# Altium footprint library SmartCardReader.PcbLib: 28 footprints (part 1 of 2)
Each footprint in its own frame and in the unit in brackets; x right, y up, seen from the top. Pads: shape width x height; smd on the part's side, far side on the other; paste and mask are expansions set on the pad; w line width, h text height; cw(c..) or ccw(c..) is an arc to the next point about the centre after c.
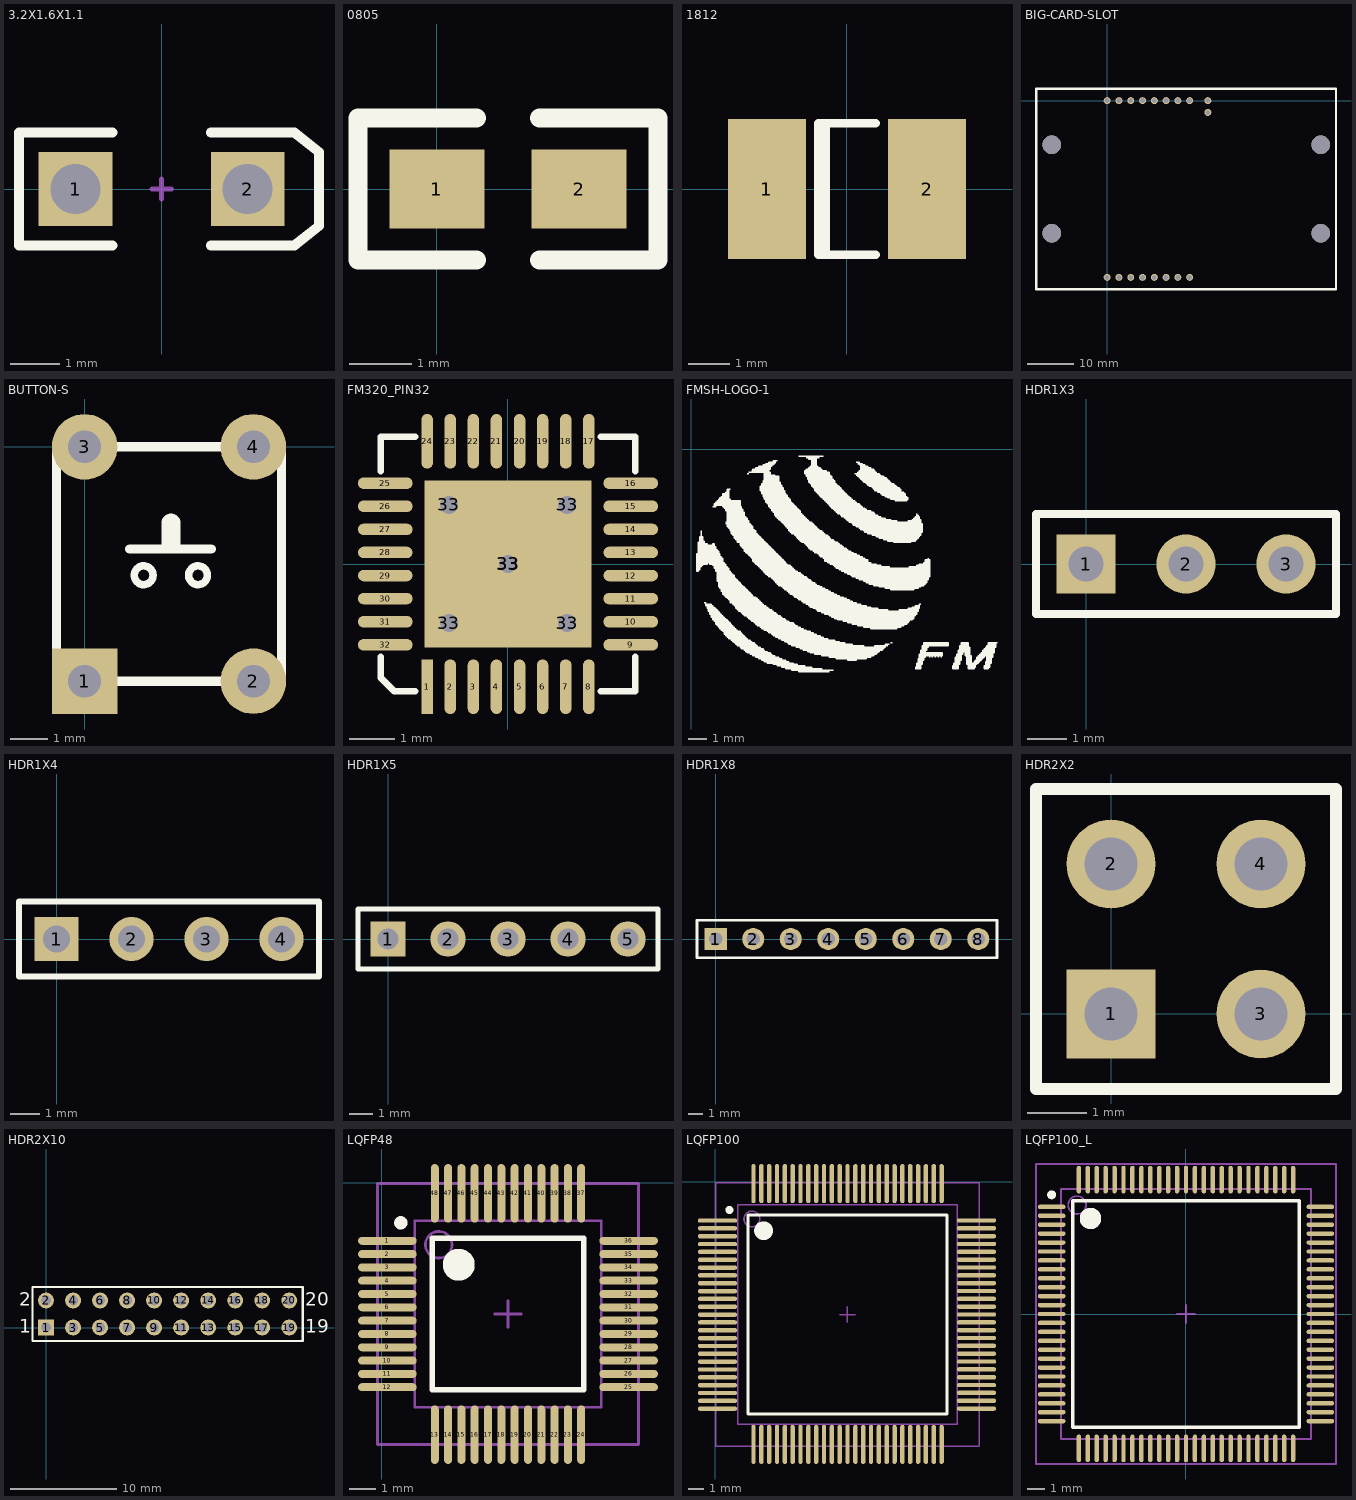
[diagram p0: the footprints below, top view; thin cyan lines are the x and y axes]

## 3.2X1.6X1.1 [mm] "SMT LED; 2 Flat Leads"
height 1.2
pads (2):
  rect 1.5x1.5 hole 1.016: 1(-1.75,0) 2(1.75,0)
Top Overlay:
  lines w0.2: -1,-1.15 -2.9,-1.15 -2.9,1.15 -1,1.15 ; 1,-1.15 2.7,-1.15 3.2,-0.75 3.2,0.75 2.7,1.15 1,1.15
Mechanical 1:
  lines w0.1: -0.2,0 0.2,0 ; 0,-0.2 0,0.2

## 0805 [mil]
pads (2):
  rect 60x50 smd: 1(0,0) 2(90,0)
Top Overlay:
  lines w12: 25,-45 -50,-45 -50,45 25,45 ; 65,-45 140,-45 140,45 65,45

## 1812 [mm] "Chip Capacitor; Body 4.5 x 3.2 mm (LxW typ)"
height 1.1
pads (2):
  rect 1.9x3.4 smd: 1(-1.95,0) 2(1.95,0)
Top Overlay:
  lines w0.2: -0.51,-1.6 -0.51,1.6 ; 0.7,-1.6 -0.7,-1.6 -0.7,1.6 0.7,1.6

## BIG-CARD-SLOT [mm]
height 1.35
pads (18):
  round 1.5 hole 1.05: 0(0,-38.1) 0(0,0) 0(2.54,-38.1) 0(2.54,0) 0(5.08,-38.1) 0(5.08,0) 0(7.62,-38.1) 0(7.62,0) 1(10.16,0) 2(12.7,0) 3(15.24,0) 4(17.78,0) 5(10.16,-38.1) 6(12.7,-38.1) 7(15.24,-38.1) 8(17.78,-38.1) 9(21.692,0) 10(21.692,-2.54)
via -11.913,-28.55 diameter 4 hole 4
via 46.05,-28.55 diameter 4 hole 4
via -11.913,-9.525 diameter 4 hole 4
via 46.05,-9.5 diameter 4 hole 4
Top Overlay:
  lines w0.508: -15.342,-40.64 49.301,-40.64 49.327,-40.615 ; -15.265,-40.64 -15.265,2.54 49.327,2.54 49.327,-40.64

## BUTTON-S [mil]
pads (4):
  rect 70x70 hole 35: 1(0,-250)
  round 70 hole 35: 2(180,-250) 3(0,0) 4(180,0)
Top Overlay:
  circle w8: c121,-137 r10
  circle w8: c63,-137 r10
  lines w10: -30,-250 -30,0 ; 0,-250 180,-250 ; 0,0 180,0 ; 48,-109 135,-109 ; 210,-250 210,0
  lines w20: 92,-102 92,-81

## FM320_PIN32 [mm]
pads (38):
  rect 0.254x1.2 smd: 1(-1.777,-2.694)
  oval 0.254x1.2 smd: 2(-1.269,-2.694) 3(-0.761,-2.694) 4(-0.253,-2.694) 5(0.255,-2.694) 6(0.763,-2.694) 7(1.271,-2.694) 8(1.779,-2.694) 17(1.779,2.706) 18(1.271,2.706) 19(0.763,2.706) 20(0.255,2.706) 21(-0.253,2.706) 22(-0.761,2.706) 23(-1.269,2.706) 24(-1.777,2.706)
  oval 1.2x0.254 smd: 9(2.701,-1.772) 10(2.701,-1.264) 11(2.701,-0.756) 12(2.701,-0.248) 13(2.701,0.26) 14(2.701,0.768) 15(2.701,1.276) 16(2.701,1.784) 25(-2.699,1.784) 26(-2.699,1.276) 27(-2.699,0.768) 28(-2.699,0.26) 29(-2.699,-0.248) 30(-2.699,-0.756) 31(-2.699,-1.264) 32(-2.699,-1.772)
  round 0.6 hole 0.4: 33(-1.299,-1.294) 33(-1.299,1.306) 33(0.001,0.006) 33(1.301,-1.294) 33(1.301,1.306)
  rect 3.683x3.683 smd: 33(0.001,0.006)
Top Overlay:
  lines w0.152: -2.799,-2.044 -2.799,-2.494 -2.499,-2.794 -2.049,-2.794 ; -2.799,2.056 -2.799,2.806 -2.049,2.806 ; 2.051,-2.794 2.801,-2.794 2.801,-2.044 ; 2.051,2.806 2.801,2.806 2.801,2.056

## FMSH-LOGO-1 [mm]
Top Overlay:
  drawing of 1193 lines, arcs and shapes, not listed

## HDR1X3 [mm] "Connector; Header; 3 Position"
height 8.2
pads (3):
  rect 1.5x1.5 hole 0.9: 1(0,0)
  round 1.5 hole 0.9: 2(2.54,0) 3(5.08,0)
Top Overlay:
  lines w0.2: -1.27,-1.27 -1.27,1.27 6.35,1.27 6.35,-1.27 -1.27,-1.27

## HDR1X4 [mm] "Connector; Header; 4 Position"
pads (4):
  rect 1.5x1.5 hole 0.9: 1(0,0)
  round 1.5 hole 0.9: 2(2.54,0) 3(5.08,0) 4(7.62,0)
Top Overlay:
  lines w0.2: -1.27,-1.27 8.89,-1.27 8.89,1.27 -1.27,1.27 -1.27,-1.27

## HDR1X5 [mm] "Connector; Header; 5 Position"
pads (5):
  rect 1.5x1.5 hole 0.9: 1(0,0)
  round 1.5 hole 0.9: 2(2.54,0) 3(5.08,0) 4(7.62,0) 5(10.16,0)
Top Overlay:
  lines w0.2: -1.27,-1.27 11.43,-1.27 11.43,1.27 -1.27,1.27 -1.27,-1.27

## HDR1X8 [mm] "Connector; Header; 8 Position"
pads (8):
  rect 1.5x1.5 hole 0.9: 1(0,0)
  round 1.5 hole 0.9: 2(2.54,0) 3(5.08,0) 4(7.62,0) 5(10.16,0) 6(12.7,0) 7(15.24,0) 8(17.78,0)
Top Overlay:
  lines w0.2: -1.27,-1.27 19.05,-1.27 19.05,1.27 -1.27,1.27 -1.27,-1.27

## HDR2X2 [mm] "Connector; Header; 2x2 Position"
pads (4):
  rect 1.5x1.5 hole 0.9: 1(0,0)
  round 1.5 hole 0.9: 2(0,2.54) 3(2.54,0) 4(2.54,2.54)
Top Overlay:
  lines w0.2: -1.27,-1.27 -1.27,3.81 3.81,3.81 3.81,-1.27 -1.27,-1.27

## HDR2X10 [mm] "Connector; Header; 10x2 Position"
height 8.2
pads (20):
  rect 1.5x1.5 hole 0.9: 1(0,0)
  round 1.5 hole 0.9: 2(0,2.54) 3(2.54,0) 4(2.54,2.54) 5(5.08,0) 6(5.08,2.54) 7(7.62,0) 8(7.62,2.54) 9(10.16,0) 10(10.16,2.54) 11(12.7,0) 12(12.7,2.54) 13(15.24,0) 14(15.24,2.54) 15(17.78,0) 16(17.78,2.54) 17(20.32,0) 18(20.32,2.54) 19(22.86,0) 20(22.86,2.54)
Top Overlay:
  lines w0.2: -1.27,-1.27 -1.27,3.81 0.635,3.81 24.13,3.81 24.13,-1.27 0.635,-1.27 -1.27,-1.27
  text "2" at -2.54,2.032 h1.27
  text "1" at -2.54,-0.508 h1.27
  text "19" at 24.384,-0.508 h1.27
  text "20" at 24.384,2.032 h1.27

## LQFP48 [mm]
pads (48):
  oval 2.2x0.3 smd: 1(0.217,-2.178) 2(0.217,-2.678) 3(0.217,-3.178) 4(0.217,-3.678) 5(0.217,-4.178) 6(0.217,-4.678) 7(0.217,-5.178) 8(0.217,-5.678) 9(0.217,-6.178) 10(0.217,-6.678) 11(0.217,-7.178) 12(0.217,-7.678) 25(9.283,-7.678) 26(9.283,-7.178) 27(9.283,-6.678) 28(9.283,-6.178) 29(9.283,-5.678) 30(9.283,-5.178) 31(9.283,-4.678) 32(9.283,-4.178) 33(9.283,-3.678) 34(9.283,-3.178) 35(9.283,-2.678) 36(9.283,-2.178)
  oval 0.3x2.2 smd: 13(2,-9.461) 14(2.5,-9.461) 15(3,-9.461) 16(3.5,-9.461) 17(4,-9.461) 18(4.5,-9.461) 19(5,-9.461) 20(5.5,-9.461) 21(6,-9.461) 22(6.5,-9.461) 23(7,-9.461) 24(7.5,-9.461) 37(7.5,-0.395) 38(7,-0.395) 39(6.5,-0.395) 40(6,-0.395) 41(5.5,-0.395) 42(5,-0.395) 43(4.5,-0.395) 44(4,-0.395) 45(3.5,-0.395) 46(3,-0.395) 47(2.5,-0.395) 48(2,-0.395)
Top Overlay:
  circle w0.6: c2.9,-3.078 r0.3
  circle w0.25: c0.725,-1.503 r0.125
  lines w0.2: 1.9,-7.778 7.6,-7.778 7.6,-2.078 1.9,-2.078 1.9,-7.778
Mechanical 13:
  circle w0.1: c2.15,-2.328 r0.5
  lines w0.1: 1.25,-8.428 8.25,-8.428 8.25,-1.428 1.25,-1.428 1.25,-8.428
Mechanical 15:
  lines w0.1: 4.25,-4.928 5.25,-4.928 ; 4.75,-5.428 4.75,-4.428 ; -0.15,-9.828 9.65,-9.828 9.65,-0.028 -0.15,-0.028 -0.15,-9.828
3D body: height 1.6, standoff 0, extent 1.25,-8.428 8.25,-1.428

## LQFP100 [mm]
pads (100):
  oval 2.5x0.28 smd: 1(0.152,-2.489) 2(0.152,-2.989) 3(0.152,-3.489) 4(0.152,-3.989) 5(0.152,-4.489) 6(0.152,-4.989) 7(0.152,-5.489) 8(0.152,-5.989) 9(0.152,-6.489) 10(0.152,-6.989) 11(0.152,-7.489) 12(0.152,-7.989) 13(0.152,-8.489) 14(0.152,-8.989) 15(0.152,-9.489) 16(0.152,-9.989) 17(0.152,-10.489) 18(0.152,-10.989) 19(0.152,-11.489) 20(0.152,-11.989) 21(0.152,-12.489) 22(0.152,-12.989) 23(0.152,-13.489) 24(0.152,-13.989) 25(0.152,-14.489) 51(16.669,-14.484) 52(16.669,-13.984) 53(16.669,-13.484) 54(16.669,-12.984) 55(16.669,-12.484) 56(16.669,-11.984) 57(16.669,-11.484) 58(16.669,-10.984) 59(16.669,-10.484) 60(16.669,-9.984) 61(16.669,-9.484) 62(16.669,-8.984) 63(16.669,-8.484) 64(16.669,-7.984) 65(16.669,-7.484) 66(16.669,-6.984) 67(16.669,-6.484) 68(16.669,-5.984) 69(16.669,-5.484) 70(16.669,-4.984) 71(16.669,-4.484) 72(16.669,-3.984) 73(16.669,-3.484) 74(16.669,-2.984) 75(16.669,-2.484)
  oval 0.28x2.5 smd: 26(2.445,-16.77) 27(2.945,-16.77) 28(3.445,-16.77) 29(3.945,-16.77) 30(4.445,-16.77) 31(4.945,-16.77) 32(5.445,-16.77) 33(5.945,-16.77) 34(6.445,-16.77) 35(6.945,-16.77) 36(7.445,-16.77) 37(7.945,-16.77) 38(8.445,-16.77) 39(8.945,-16.77) 40(9.445,-16.77) 41(9.945,-16.77) 42(10.445,-16.77) 43(10.945,-16.77) 44(11.445,-16.77) 45(11.945,-16.77) 46(12.445,-16.77) 47(12.945,-16.77) 48(13.445,-16.77) 49(13.945,-16.77) 50(14.445,-16.77) 76(14.445,-0.133) 77(13.945,-0.133) 78(13.445,-0.133) 79(12.945,-0.133) 80(12.445,-0.133) 81(11.945,-0.133) 82(11.445,-0.133) 83(10.945,-0.133) 84(10.445,-0.133) 85(9.945,-0.133) 86(9.445,-0.133) 87(8.945,-0.133) 88(8.445,-0.133) 89(7.945,-0.133) 90(7.445,-0.133) 91(6.945,-0.133) 92(6.445,-0.133) 93(5.945,-0.133) 94(5.445,-0.133) 95(4.945,-0.133) 96(4.445,-0.133) 97(3.945,-0.133) 98(3.445,-0.133) 99(2.945,-0.133) 100(2.445,-0.133)
Top Overlay:
  circle w0.6: c3.089,-3.139 r0.3
  circle w0.25: c0.914,-1.814 r0.125
  lines w0.2: 2.089,-14.839 14.789,-14.839 14.789,-2.139 2.089,-2.139 2.089,-14.839
Mechanical 13:
  circle w0.1: c2.339,-2.389 r0.5
  lines w0.1: 1.439,-15.489 15.439,-15.489 15.439,-1.489 1.439,-1.489 1.439,-15.489
Mechanical 15:
  lines w0.1: 7.939,-8.489 8.939,-8.489 ; 8.439,-8.989 8.439,-7.989 ; 0.039,-16.889 16.839,-16.889 16.839,-0.089 0.039,-0.089 0.039,-16.889
3D body: height 1.6, standoff 0, extent 1.439,-15.489 15.439,-1.489

## LQFP100_L [mm] "Thin QFP, 100-Leads, Body 14x14mm, Pitch 0.5mm, IPC High Density"
height 1.6
pads (100):
  oval 1.55x0.25 smd: 1(-7.525,6) 2(-7.525,5.5) 3(-7.525,5) 4(-7.525,4.5) 5(-7.525,4) 6(-7.525,3.5) 7(-7.525,3) 8(-7.525,2.5) 9(-7.525,2) 10(-7.525,1.5) 11(-7.525,1) 12(-7.525,0.5) 13(-7.525,0) 14(-7.525,-0.5) 15(-7.525,-1) 16(-7.525,-1.5) 17(-7.525,-2) 18(-7.525,-2.5) 19(-7.525,-3) 20(-7.525,-3.5) 21(-7.525,-4) 22(-7.525,-4.5) 23(-7.525,-5) 24(-7.525,-5.5) 25(-7.525,-6) 51(7.525,-6) 52(7.525,-5.5) 53(7.525,-5) 54(7.525,-4.5) 55(7.525,-4) 56(7.525,-3.5) 57(7.525,-3) 58(7.525,-2.5) 59(7.525,-2) 60(7.525,-1.5) 61(7.525,-1) 62(7.525,-0.5) 63(7.525,0) 64(7.525,0.5) 65(7.525,1) 66(7.525,1.5) 67(7.525,2) 68(7.525,2.5) 69(7.525,3) 70(7.525,3.5) 71(7.525,4) 72(7.525,4.5) 73(7.525,5) 74(7.525,5.5) 75(7.525,6)
  oval 0.25x1.55 smd: 26(-6,-7.525) 27(-5.5,-7.525) 28(-5,-7.525) 29(-4.5,-7.525) 30(-4,-7.525) 31(-3.5,-7.525) 32(-3,-7.525) 33(-2.5,-7.525) 34(-2,-7.525) 35(-1.5,-7.525) 36(-1,-7.525) 37(-0.5,-7.525) 38(0,-7.525) 39(0.5,-7.525) 40(1,-7.525) 41(1.5,-7.525) 42(2,-7.525) 43(2.5,-7.525) 44(3,-7.525) 45(3.5,-7.525) 46(4,-7.525) 47(4.5,-7.525) 48(5,-7.525) 49(5.5,-7.525) 50(6,-7.525) 76(6,7.525) 77(5.5,7.525) 78(5,7.525) 79(4.5,7.525) 80(4,7.525) 81(3.5,7.525) 82(3,7.525) 83(2.5,7.525) 84(2,7.525) 85(1.5,7.525) 86(1,7.525) 87(0.5,7.525) 88(0,7.525) 89(-0.5,7.525) 90(-1,7.525) 91(-1.5,7.525) 92(-2,7.525) 93(-2.5,7.525) 94(-3,7.525) 95(-3.5,7.525) 96(-4,7.525) 97(-4.5,7.525) 98(-5,7.525) 99(-5.5,7.525) 100(-6,7.525)
Top Overlay:
  circle w0.6: c-5.35,5.35 r0.3
  circle w0.25: c-7.525,6.675 r0.125
  lines w0.2: -6.35,-6.35 6.35,-6.35 6.35,6.35 -6.35,6.35 -6.35,-6.35
Mechanical 13:
  circle w0.1: c-6.1,6.1 r0.5
  lines w0.1: -7,-7 7,-7 7,7 -7,7 -7,-7
Mechanical 15:
  lines w0.1: -0.5,0 0.5,0 ; 0,-0.5 0,0.5 ; -8.4,-8.4 8.4,-8.4 8.4,8.4 -8.4,8.4 -8.4,-8.4
3D body: height 1.6, standoff 0, extent -7,-7 7,7